# Altium footprint library IC_LQFP.PcbLib: 17 footprints (part 1 of 2)
Each footprint in its own frame and in the unit in brackets; x right, y up, seen from the top. Pads: shape width x height; smd on the part's side, far side on the other; paste and mask are expansions set on the pad; w line width, h text height; cw(c..) or ccw(c..) is an arc to the next point about the centre after c.
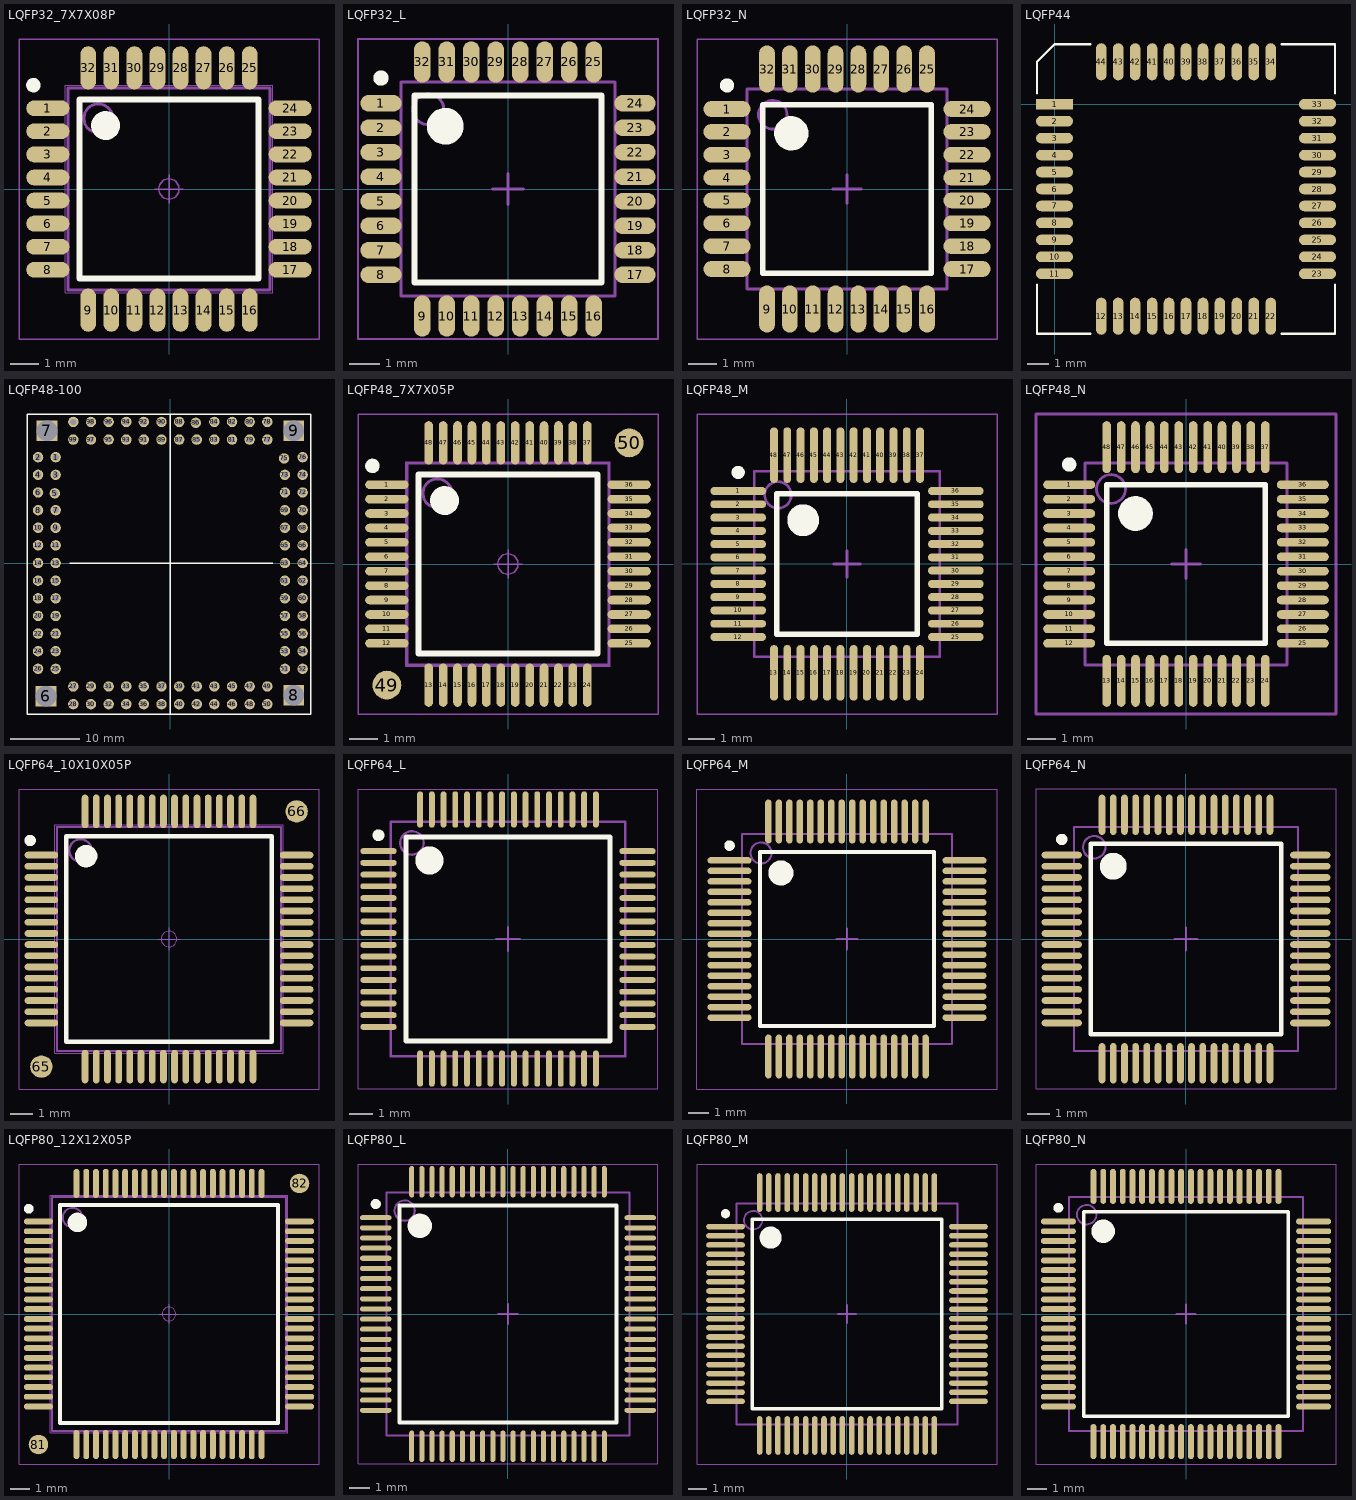
[diagram p0: the footprints below, top view; thin cyan lines are the x and y axes]

## LQFP32_7X7X08P [mm]
pads (32):
  oval 1.5x0.55 smd: 1(-4.2,2.8) 2(-4.2,2) 3(-4.2,1.2) 4(-4.2,0.4) 5(-4.2,-0.4) 6(-4.2,-1.2) 7(-4.2,-2) 8(-4.2,-2.8) 17(4.2,-2.8) 18(4.2,-2) 19(4.2,-1.2) 20(4.2,-0.4) 21(4.2,0.4) 22(4.2,1.2) 23(4.2,2) 24(4.2,2.8)
  oval 0.55x1.5 smd: 9(-2.8,-4.2) 10(-2,-4.2) 11(-1.2,-4.2) 12(-0.4,-4.2) 13(0.4,-4.2) 14(1.2,-4.2) 15(2,-4.2) 16(2.8,-4.2) 25(2.8,4.2) 26(2,4.2) 27(1.2,4.2) 28(0.4,4.2) 29(-0.4,4.2) 30(-1.2,4.2) 31(-2,4.2) 32(-2.8,4.2)
Top Overlay:
  circle w0.25: c-4.7,3.6 r0.125
  circle w0.5: c-2.2,2.2 r0.25
  lines w0.2: -3.1,-3.1 3.1,-3.1 3.1,3.1 -3.1,3.1 -3.1,-3.1
Mechanical 15:
  circle w0.1: c-2.45,2.45 r0.5
  lines w0.1: -3.5,-3.5 3.5,-3.5 3.5,3.5 -3.5,3.5 -3.5,-3.5
Mechanical 16:
  circle w0.05: c0,0 r0.35
  lines w0.001: -3.6,-3.6 3.6,-3.6 3.6,3.6 -3.6,3.6 -3.6,-3.6
  lines w0.05: -0.5,0 0.5,0 ; 0,-0.5 0,0.5 ; -5.2,-5.2 5.2,-5.2 5.2,5.2 -5.2,5.2 -5.2,-5.2
3D body "User Library-sot358-1.STEP": height 1.45, standoff -0.01, extent -4.521,-4.514 4.558,4.565

## LQFP32_L [mm] "Thin QFP, 32-Leads, Body 7x7mm, Pitch 0.8mm, IPC High Density"
height 1.6
pads (32):
  oval 1.35x0.55 smd: 1(-4.15,2.8) 2(-4.15,2) 3(-4.15,1.2) 4(-4.15,0.4) 5(-4.15,-0.4) 6(-4.15,-1.2) 7(-4.15,-2) 8(-4.15,-2.8) 17(4.15,-2.8) 18(4.15,-2) 19(4.15,-1.2) 20(4.15,-0.4) 21(4.15,0.4) 22(4.15,1.2) 23(4.15,2) 24(4.15,2.8)
  oval 0.55x1.35 smd: 9(-2.8,-4.15) 10(-2,-4.15) 11(-1.2,-4.15) 12(-0.4,-4.15) 13(0.4,-4.15) 14(1.2,-4.15) 15(2,-4.15) 16(2.8,-4.15) 25(2.8,4.15) 26(2,4.15) 27(1.2,4.15) 28(0.4,4.15) 29(-0.4,4.15) 30(-1.2,4.15) 31(-2,4.15) 32(-2.8,4.15)
Top Overlay:
  circle w0.6: c-2.05,2.05 r0.3
  circle w0.25: c-4.15,3.625 r0.125
  lines w0.2: -3.05,-3.05 3.05,-3.05 3.05,3.05 -3.05,3.05 -3.05,-3.05
Mechanical 13:
  circle w0.1: c-2.6,2.6 r0.5
  lines w0.1: -3.5,-3.5 3.5,-3.5 3.5,3.5 -3.5,3.5 -3.5,-3.5
Mechanical 15:
  lines w0.05: -4.9,-4.9 4.9,-4.9 4.9,4.9 -4.9,4.9 -4.9,-4.9
  lines w0.1: -0.5,0 0.5,0 ; 0,-0.5 0,0.5
3D body: height 1.6, standoff 0, extent -3.5,-3.5 3.5,3.5

## LQFP32_N [mm] "Thin QFP, 32-Leads, Body 7x7mm, Pitch 0.8mm, IPC Medium Density"
height 1.6
pads (32):
  oval 1.65x0.55 smd: 1(-4.2,2.8) 2(-4.2,2) 3(-4.2,1.2) 4(-4.2,0.4) 5(-4.2,-0.4) 6(-4.2,-1.2) 7(-4.2,-2) 8(-4.2,-2.8) 17(4.2,-2.8) 18(4.2,-2) 19(4.2,-1.2) 20(4.2,-0.4) 21(4.2,0.4) 22(4.2,1.2) 23(4.2,2) 24(4.2,2.8)
  oval 0.55x1.65 smd: 9(-2.8,-4.2) 10(-2,-4.2) 11(-1.2,-4.2) 12(-0.4,-4.2) 13(0.4,-4.2) 14(1.2,-4.2) 15(2,-4.2) 16(2.8,-4.2) 25(2.8,4.2) 26(2,4.2) 27(1.2,4.2) 28(0.4,4.2) 29(-0.4,4.2) 30(-1.2,4.2) 31(-2,4.2) 32(-2.8,4.2)
Top Overlay:
  circle w0.6: c-1.95,1.95 r0.3
  circle w0.25: c-4.2,3.625 r0.125
  lines w0.2: -2.95,-2.95 2.95,-2.95 2.95,2.95 -2.95,2.95 -2.95,-2.95
Mechanical 13:
  circle w0.1: c-2.6,2.6 r0.5
  lines w0.1: -3.5,-3.5 3.5,-3.5 3.5,3.5 -3.5,3.5 -3.5,-3.5
Mechanical 15:
  lines w0.05: -5.25,-5.25 5.25,-5.25 5.25,5.25 -5.25,5.25 -5.25,-5.25
  lines w0.1: -0.5,0 0.5,0 ; 0,-0.5 0,0.5
3D body: height 1.6, standoff 0, extent -3.5,-3.5 3.5,3.5

## LQFP44 [mm]
pads (44):
  rect 1.75x0.5 smd: 1(0,0)
  oval 1.75x0.5 smd: 2(0,-0.8) 3(0,-1.6) 4(0,-2.4) 5(0,-3.2) 6(0,-4) 7(0,-4.8) 8(0,-5.6) 9(0,-6.4) 10(0,-7.2) 11(0,-8) 23(12.4,-8) 24(12.4,-7.2) 25(12.4,-6.4) 26(12.4,-5.6) 27(12.4,-4.8) 28(12.4,-4) 29(12.4,-3.2) 30(12.4,-2.4) 31(12.4,-1.6) 32(12.4,-0.8) 33(12.4,0)
  oval 0.5x1.75 smd: 12(2.2,-10) 13(3,-10) 14(3.8,-10) 15(4.6,-10) 16(5.4,-10) 17(6.2,-10) 18(7,-10) 19(7.8,-10) 20(8.6,-10) 21(9.4,-10) 22(10.2,-10) 34(10.2,2) 35(9.4,2) 36(8.6,2) 37(7.8,2) 38(7,2) 39(6.2,2) 40(5.4,2) 41(4.6,2) 42(3.8,2) 43(3,2) 44(2.2,2)
Top Overlay:
  lines w0.1: -0.825,-8.5 -0.825,-10.825 1.7,-10.825 ; -0.825,0.5 -0.825,2 0,2.825 1.7,2.825 ; 10.7,-10.825 13.225,-10.825 13.225,-8.5 ; 10.7,2.825 13.225,2.825 13.225,0.5
3D body "User Library-LQFP 44.STEP": height 2.92, standoff -0.01, extent -0.203,-10.389 12.597,2.411

## LQFP48-100 [mm]
pads (104):
  round 1.5 hole 0.9: 1(-16.51,15.24) 2(-19.05,15.24) 3(-16.51,12.7) 4(-19.05,12.7) 5(-16.637,10.033) 6(-19.05,10.16) 7(-16.51,7.62) 8(-19.05,7.62) 9(-16.51,5.08) 10(-19.05,5.08) 11(-16.51,2.54) 12(-19.05,2.54) 13(-16.51,0) 14(-19.05,0) 15(-16.51,-2.54) 16(-19.05,-2.54) 17(-16.51,-5.08) 18(-19.05,-5.08) 19(-16.51,-7.62) 20(-19.05,-7.62) 21(-16.51,-10.16) 22(-19.05,-10.16) 23(-16.51,-12.7) 24(-19.05,-12.7) 25(-16.51,-15.24) 26(-19.05,-15.24) 27(-13.97,-17.78) 28(-13.97,-20.32) 29(-11.43,-17.78) 30(-11.43,-20.32) 31(-8.89,-17.78) 32(-8.89,-20.32) 33(-6.35,-17.78) 34(-6.35,-20.32) 35(-3.81,-17.78) 36(-3.81,-20.32) 37(-1.27,-17.78) 38(-1.27,-20.32) 39(1.27,-17.78) 40(1.27,-20.32) 41(3.81,-17.78) 42(3.81,-20.32) 43(6.35,-17.78) 44(6.35,-20.32) 45(8.89,-17.78) 46(8.89,-20.32) 47(11.43,-17.78) 48(11.43,-20.32) 49(13.97,-17.78) 50(13.97,-20.32) 51(16.51,-15.24) 52(19.05,-15.24) 53(16.51,-12.7) 54(19.05,-12.7) 55(16.51,-10.16) 56(19.05,-10.16) 57(16.51,-7.62) 58(19.05,-7.62) 59(16.51,-5.08) 60(19.05,-5.08) 61(16.51,-2.54) 62(19.05,-2.54) 63(16.51,0) 64(19.05,0) 65(16.51,2.54) 66(19.05,2.54) 67(16.51,5.08) 68(19.05,5.08) 69(16.51,7.62) 70(19.05,7.62) 71(16.51,10.16) 72(19.05,10.16) 73(16.51,12.7) 74(19.05,12.7) 75(16.383,15.059) 76(19.05,15.24) 77(13.97,17.78) 78(13.97,20.32) 79(11.43,17.78) 80(11.43,20.32) 81(8.89,17.78) 82(8.89,20.32) 83(6.35,17.78) 84(6.35,20.32) 85(3.81,17.78) 86(3.683,20.193) 87(1.27,17.78) 88(1.27,20.32) 89(-1.27,17.78) 90(-1.27,20.32) 91(-3.81,17.78) 92(-3.81,20.32) 93(-6.35,17.78) 94(-6.35,20.32) 95(-8.89,17.78) 96(-8.89,20.32) 97(-11.43,17.78) 98(-11.43,20.32) 99(-13.97,17.78) 100(-13.97,20.32)
  rect 3x3 hole 3: 6(-17.907,-19.177) 7(-17.78,19.05) 8(17.78,-19.05) 9(17.78,19.05)
Top Overlay:
  lines w0.2: -14.478,0 14.732,0 ; 0,-21.744 0,21.463 ; -20.574,-21.744 20.193,-21.744 20.193,21.463 -20.574,21.463 -20.574,-21.744

## LQFP48_7X7X05P [mm] "Thin QFP, 48-Leads, Body 7x7mm, Pitch 0.5mm, IPC Medium Density"
height 1.6
pads (50):
  oval 1.5x0.3 smd: 1(-4.2,2.75) 2(-4.2,2.25) 3(-4.2,1.75) 4(-4.2,1.25) 5(-4.2,0.75) 6(-4.2,0.25) 7(-4.2,-0.25) 8(-4.2,-0.75) 9(-4.2,-1.25) 10(-4.2,-1.75) 11(-4.2,-2.25) 12(-4.2,-2.75) 25(4.2,-2.75) 26(4.2,-2.25) 27(4.2,-1.75) 28(4.2,-1.25) 29(4.2,-0.75) 30(4.2,-0.25) 31(4.2,0.25) 32(4.2,0.75) 33(4.2,1.25) 34(4.2,1.75) 35(4.2,2.25) 36(4.2,2.75)
  oval 0.3x1.5 smd: 13(-2.75,-4.2) 14(-2.25,-4.2) 15(-1.75,-4.2) 16(-1.25,-4.2) 17(-0.75,-4.2) 18(-0.25,-4.2) 19(0.25,-4.2) 20(0.75,-4.2) 21(1.25,-4.2) 22(1.75,-4.2) 23(2.25,-4.2) 24(2.75,-4.2) 37(2.75,4.2) 38(2.25,4.2) 39(1.75,4.2) 40(1.25,4.2) 41(0.75,4.2) 42(0.25,4.2) 43(-0.25,4.2) 44(-0.75,4.2) 45(-1.25,4.2) 46(-1.75,4.2) 47(-2.25,4.2) 48(-2.75,4.2)
  round 1 smd: 49(-4.2,-4.2) 50(4.2,4.2)
Top Overlay:
  circle w0.5: c-2.2,2.2 r0.25
  circle w0.25: c-4.7,3.4 r0.125
  lines w0.2: -3.1,-3.1 -3.1,3.1 3.1,3.1 3.1,-3.1 -3.1,-3.1
Mechanical 15:
  circle w0.1: c-2.45,2.45 r0.5
  lines w0.1: -3.5,-3.5 -3.5,3.5 3.5,3.5 3.5,-3.5 -3.5,-3.5
Mechanical 16:
  circle w0.05: c0,0 r0.35
  lines w0.001: -3.55,-3.55 -3.55,3.55 3.55,3.55 3.55,-3.55 -3.55,-3.55
  lines w0.05: -0.5,0 0.5,0 ; 0,-0.5 0,0.5 ; -5.2,-5.2 -5.2,5.2 5.2,5.2 5.2,-5.2 -5.2,-5.2
3D body "SW3dPS-Quad50M48.STEP": height 1.56, standoff 0, extent -4.5,-4.496 4.5,4.504

## LQFP48_M [mm] "Thin QFP, 48-Leads, Body 7x7mm, Pitch 0.5mm, IPC Low Density"
height 1.6
pads (48):
  oval 2.1x0.3 smd: 1(-4.1,2.75) 2(-4.1,2.25) 3(-4.1,1.75) 4(-4.1,1.25) 5(-4.1,0.75) 6(-4.1,0.25) 7(-4.1,-0.25) 8(-4.1,-0.75) 9(-4.1,-1.25) 10(-4.1,-1.75) 11(-4.1,-2.25) 12(-4.1,-2.75) 25(4.1,-2.75) 26(4.1,-2.25) 27(4.1,-1.75) 28(4.1,-1.25) 29(4.1,-0.75) 30(4.1,-0.25) 31(4.1,0.25) 32(4.1,0.75) 33(4.1,1.25) 34(4.1,1.75) 35(4.1,2.25) 36(4.1,2.75)
  oval 0.3x2.1 smd: 13(-2.75,-4.1) 14(-2.25,-4.1) 15(-1.75,-4.1) 16(-1.25,-4.1) 17(-0.75,-4.1) 18(-0.25,-4.1) 19(0.25,-4.1) 20(0.75,-4.1) 21(1.25,-4.1) 22(1.75,-4.1) 23(2.25,-4.1) 24(2.75,-4.1) 37(2.75,4.1) 38(2.25,4.1) 39(1.75,4.1) 40(1.25,4.1) 41(0.75,4.1) 42(0.25,4.1) 43(-0.25,4.1) 44(-0.75,4.1) 45(-1.25,4.1) 46(-1.75,4.1) 47(-2.25,4.1) 48(-2.75,4.1)
Top Overlay:
  circle w0.6: c-1.65,1.65 r0.3
  circle w0.25: c-4.1,3.45 r0.125
  lines w0.2: -2.65,-2.65 2.65,-2.65 2.65,2.65 -2.65,2.65 -2.65,-2.65
Mechanical 13:
  circle w0.1: c-2.6,2.6 r0.5
  lines w0.1: -3.5,-3.5 3.5,-3.5 3.5,3.5 -3.5,3.5 -3.5,-3.5
Mechanical 15:
  lines w0.05: -5.65,-5.65 5.65,-5.65 5.65,5.65 -5.65,5.65 -5.65,-5.65
  lines w0.1: -0.5,0 0.5,0 ; 0,-0.5 0,0.5
3D body: height 1.6, standoff 0, extent -3.5,-3.5 3.5,3.5

## LQFP48_N [mm] "Thin QFP, 48-Leads, Body 7x7mm, Pitch 0.5mm, IPC Medium Density"
height 1.6
pads (48):
  oval 1.8x0.3 smd: 1(-4.05,2.75) 2(-4.05,2.25) 3(-4.05,1.75) 4(-4.05,1.25) 5(-4.05,0.75) 6(-4.05,0.25) 7(-4.05,-0.25) 8(-4.05,-0.75) 9(-4.05,-1.25) 10(-4.05,-1.75) 11(-4.05,-2.25) 12(-4.05,-2.75) 25(4.05,-2.75) 26(4.05,-2.25) 27(4.05,-1.75) 28(4.05,-1.25) 29(4.05,-0.75) 30(4.05,-0.25) 31(4.05,0.25) 32(4.05,0.75) 33(4.05,1.25) 34(4.05,1.75) 35(4.05,2.25) 36(4.05,2.75)
  oval 0.3x1.8 smd: 13(-2.75,-4.05) 14(-2.25,-4.05) 15(-1.75,-4.05) 16(-1.25,-4.05) 17(-0.75,-4.05) 18(-0.25,-4.05) 19(0.25,-4.05) 20(0.75,-4.05) 21(1.25,-4.05) 22(1.75,-4.05) 23(2.25,-4.05) 24(2.75,-4.05) 37(2.75,4.05) 38(2.25,4.05) 39(1.75,4.05) 40(1.25,4.05) 41(0.75,4.05) 42(0.25,4.05) 43(-0.25,4.05) 44(-0.75,4.05) 45(-1.25,4.05) 46(-1.75,4.05) 47(-2.25,4.05) 48(-2.75,4.05)
Top Overlay:
  circle w0.6: c-1.75,1.75 r0.3
  circle w0.25: c-4.05,3.45 r0.125
  lines w0.2: -2.75,-2.75 2.75,-2.75 2.75,2.75 -2.75,2.75 -2.75,-2.75
Mechanical 13:
  circle w0.1: c-2.6,2.6 r0.5
  lines w0.1: -3.5,-3.5 3.5,-3.5 3.5,3.5 -3.5,3.5 -3.5,-3.5
Mechanical 15:
  lines w0.1: -0.5,0 0.5,0 ; 0,-0.5 0,0.5 ; -5.2,-5.2 5.2,-5.2 5.2,5.2 -5.2,5.2 -5.2,-5.2
3D body: height 1.6, standoff 0, extent -3.5,-3.5 3.5,3.5

## LQFP64_10X10X05P [mm]
pads (66):
  oval 1.5x0.3 smd: 1(-5.7,3.75) 2(-5.7,3.25) 3(-5.7,2.75) 4(-5.7,2.25) 5(-5.7,1.75) 6(-5.7,1.25) 7(-5.7,0.75) 8(-5.7,0.25) 9(-5.7,-0.25) 10(-5.7,-0.75) 11(-5.7,-1.25) 12(-5.7,-1.75) 13(-5.7,-2.25) 14(-5.7,-2.75) 15(-5.7,-3.25) 16(-5.7,-3.75) 33(5.7,-3.75) 34(5.7,-3.25) 35(5.7,-2.75) 36(5.7,-2.25) 37(5.7,-1.75) 38(5.7,-1.25) 39(5.7,-0.75) 40(5.7,-0.25) 41(5.7,0.25) 42(5.7,0.75) 43(5.7,1.25) 44(5.7,1.75) 45(5.7,2.25) 46(5.7,2.75) 47(5.7,3.25) 48(5.7,3.75)
  oval 0.3x1.5 smd: 17(-3.75,-5.7) 18(-3.25,-5.7) 19(-2.75,-5.7) 20(-2.25,-5.7) 21(-1.75,-5.7) 22(-1.25,-5.7) 23(-0.75,-5.7) 24(-0.25,-5.7) 25(0.25,-5.7) 26(0.75,-5.7) 27(1.25,-5.7) 28(1.75,-5.7) 29(2.25,-5.7) 30(2.75,-5.7) 31(3.25,-5.7) 32(3.75,-5.7) 49(3.75,5.7) 50(3.25,5.7) 51(2.75,5.7) 52(2.25,5.7) 53(1.75,5.7) 54(1.25,5.7) 55(0.75,5.7) 56(0.25,5.7) 57(-0.25,5.7) 58(-0.75,5.7) 59(-1.25,5.7) 60(-1.75,5.7) 61(-2.25,5.7) 62(-2.75,5.7) 63(-3.25,5.7) 64(-3.75,5.7)
  round 1 smd: 65(-5.7,-5.7) 66(5.7,5.7)
Top Overlay:
  circle w0.25: c-6.2,4.4 r0.125
  circle w0.5: c-3.7,3.7 r0.25
  lines w0.2: -4.6,-4.6 4.6,-4.6 4.6,4.6 -4.6,4.6 -4.6,-4.6
Mechanical 15:
  circle w0.1: c-3.95,3.95 r0.5
  lines w0.1: -5,-5 5,-5 5,5 -5,5 -5,-5
Mechanical 16:
  circle w0.05: c0,0 r0.35
  lines w0.001: -5.1,-5.1 5.1,-5.1 5.1,5.1 -5.1,5.1 -5.1,-5.1
  lines w0.05: -0.5,0 0.5,0 ; 0,-0.5 0,0.5 ; -6.7,-6.7 6.7,-6.7 6.7,6.7 -6.7,6.7 -6.7,-6.7
3D body "User Library-LQFP-64.STEP": height 1.7, standoff -0.01, extent -5.994,-6.006 6.006,5.994

## LQFP64_L [mm] "Thin QFP, 64-Leads, Body 10x10mm, Pitch 0.5mm, IPC High Density"
height 1.6
pads (64):
  oval 1.55x0.25 smd: 1(-5.525,3.75) 2(-5.525,3.25) 3(-5.525,2.75) 4(-5.525,2.25) 5(-5.525,1.75) 6(-5.525,1.25) 7(-5.525,0.75) 8(-5.525,0.25) 9(-5.525,-0.25) 10(-5.525,-0.75) 11(-5.525,-1.25) 12(-5.525,-1.75) 13(-5.525,-2.25) 14(-5.525,-2.75) 15(-5.525,-3.25) 16(-5.525,-3.75) 33(5.525,-3.75) 34(5.525,-3.25) 35(5.525,-2.75) 36(5.525,-2.25) 37(5.525,-1.75) 38(5.525,-1.25) 39(5.525,-0.75) 40(5.525,-0.25) 41(5.525,0.25) 42(5.525,0.75) 43(5.525,1.25) 44(5.525,1.75) 45(5.525,2.25) 46(5.525,2.75) 47(5.525,3.25) 48(5.525,3.75)
  oval 0.25x1.55 smd: 17(-3.75,-5.525) 18(-3.25,-5.525) 19(-2.75,-5.525) 20(-2.25,-5.525) 21(-1.75,-5.525) 22(-1.25,-5.525) 23(-0.75,-5.525) 24(-0.25,-5.525) 25(0.25,-5.525) 26(0.75,-5.525) 27(1.25,-5.525) 28(1.75,-5.525) 29(2.25,-5.525) 30(2.75,-5.525) 31(3.25,-5.525) 32(3.75,-5.525) 49(3.75,5.525) 50(3.25,5.525) 51(2.75,5.525) 52(2.25,5.525) 53(1.75,5.525) 54(1.25,5.525) 55(0.75,5.525) 56(0.25,5.525) 57(-0.25,5.525) 58(-0.75,5.525) 59(-1.25,5.525) 60(-1.75,5.525) 61(-2.25,5.525) 62(-2.75,5.525) 63(-3.25,5.525) 64(-3.75,5.525)
Top Overlay:
  circle w0.6: c-3.35,3.35 r0.3
  circle w0.25: c-5.525,4.425 r0.125
  lines w0.2: -4.35,-4.35 4.35,-4.35 4.35,4.35 -4.35,4.35 -4.35,-4.35
Mechanical 13:
  circle w0.1: c-4.1,4.1 r0.5
  lines w0.1: -5,-5 5,-5 5,5 -5,5 -5,-5
Mechanical 15:
  lines w0.05: -6.4,-6.4 6.4,-6.4 6.4,6.4 -6.4,6.4 -6.4,-6.4
  lines w0.1: -0.5,0 0.5,0 ; 0,-0.5 0,0.5
3D body: height 1.6, standoff 0, extent -5,-5 5,5

## LQFP64_M [mm] "Thin QFP, 64-Leads, Body 10x10mm, Pitch 0.5mm, IPC Low Density"
height 1.6
pads (64):
  oval 2.1x0.3 smd: 1(-5.6,3.75) 2(-5.6,3.25) 3(-5.6,2.75) 4(-5.6,2.25) 5(-5.6,1.75) 6(-5.6,1.25) 7(-5.6,0.75) 8(-5.6,0.25) 9(-5.6,-0.25) 10(-5.6,-0.75) 11(-5.6,-1.25) 12(-5.6,-1.75) 13(-5.6,-2.25) 14(-5.6,-2.75) 15(-5.6,-3.25) 16(-5.6,-3.75) 33(5.6,-3.75) 34(5.6,-3.25) 35(5.6,-2.75) 36(5.6,-2.25) 37(5.6,-1.75) 38(5.6,-1.25) 39(5.6,-0.75) 40(5.6,-0.25) 41(5.6,0.25) 42(5.6,0.75) 43(5.6,1.25) 44(5.6,1.75) 45(5.6,2.25) 46(5.6,2.75) 47(5.6,3.25) 48(5.6,3.75)
  oval 0.3x2.1 smd: 17(-3.75,-5.6) 18(-3.25,-5.6) 19(-2.75,-5.6) 20(-2.25,-5.6) 21(-1.75,-5.6) 22(-1.25,-5.6) 23(-0.75,-5.6) 24(-0.25,-5.6) 25(0.25,-5.6) 26(0.75,-5.6) 27(1.25,-5.6) 28(1.75,-5.6) 29(2.25,-5.6) 30(2.75,-5.6) 31(3.25,-5.6) 32(3.75,-5.6) 49(3.75,5.6) 50(3.25,5.6) 51(2.75,5.6) 52(2.25,5.6) 53(1.75,5.6) 54(1.25,5.6) 55(0.75,5.6) 56(0.25,5.6) 57(-0.25,5.6) 58(-0.75,5.6) 59(-1.25,5.6) 60(-1.75,5.6) 61(-2.25,5.6) 62(-2.75,5.6) 63(-3.25,5.6) 64(-3.75,5.6)
Top Overlay:
  circle w0.25: c-5.6,4.45 r0.125
  circle w0.6: c-3.15,3.15 r0.3
  lines w0.2: -4.15,-4.15 -4.15,4.15 4.15,4.15 4.15,-4.15 -4.15,-4.15
Mechanical 13:
  circle w0.1: c-4.1,4.1 r0.5
  lines w0.1: -5,-5 -5,5 5,5 5,-5 -5,-5
Mechanical 15:
  lines w0.05: -7.15,-7.15 -7.15,7.15 7.15,7.15 7.15,-7.15 -7.15,-7.15
  lines w0.1: -0.5,0 0.5,0 ; 0,-0.5 0,0.5
3D body: height 1.6, standoff 0, extent -5,-5 5,5

## LQFP64_N [mm] "Thin QFP, 64-Leads, Body 10x10mm, Pitch 0.5mm, IPC Medium Density"
height 1.6
pads (64):
  oval 1.8x0.3 smd: 1(-5.55,3.75) 2(-5.55,3.25) 3(-5.55,2.75) 4(-5.55,2.25) 5(-5.55,1.75) 6(-5.55,1.25) 7(-5.55,0.75) 8(-5.55,0.25) 9(-5.55,-0.25) 10(-5.55,-0.75) 11(-5.55,-1.25) 12(-5.55,-1.75) 13(-5.55,-2.25) 14(-5.55,-2.75) 15(-5.55,-3.25) 16(-5.55,-3.75) 33(5.55,-3.75) 34(5.55,-3.25) 35(5.55,-2.75) 36(5.55,-2.25) 37(5.55,-1.75) 38(5.55,-1.25) 39(5.55,-0.75) 40(5.55,-0.25) 41(5.55,0.25) 42(5.55,0.75) 43(5.55,1.25) 44(5.55,1.75) 45(5.55,2.25) 46(5.55,2.75) 47(5.55,3.25) 48(5.55,3.75)
  oval 0.3x1.8 smd: 17(-3.75,-5.55) 18(-3.25,-5.55) 19(-2.75,-5.55) 20(-2.25,-5.55) 21(-1.75,-5.55) 22(-1.25,-5.55) 23(-0.75,-5.55) 24(-0.25,-5.55) 25(0.25,-5.55) 26(0.75,-5.55) 27(1.25,-5.55) 28(1.75,-5.55) 29(2.25,-5.55) 30(2.75,-5.55) 31(3.25,-5.55) 32(3.75,-5.55) 49(3.75,5.55) 50(3.25,5.55) 51(2.75,5.55) 52(2.25,5.55) 53(1.75,5.55) 54(1.25,5.55) 55(0.75,5.55) 56(0.25,5.55) 57(-0.25,5.55) 58(-0.75,5.55) 59(-1.25,5.55) 60(-1.75,5.55) 61(-2.25,5.55) 62(-2.75,5.55) 63(-3.25,5.55) 64(-3.75,5.55)
Top Overlay:
  circle w0.25: c-5.55,4.45 r0.125
  circle w0.6: c-3.25,3.25 r0.3
  lines w0.2: -4.25,-4.25 -4.25,4.25 4.25,4.25 4.25,-4.25 -4.25,-4.25
Mechanical 13:
  circle w0.1: c-4.1,4.1 r0.5
  lines w0.1: -5,-5 -5,5 5,5 5,-5 -5,-5
Mechanical 15:
  lines w0.05: -6.7,-6.7 -6.7,6.7 6.7,6.7 6.7,-6.7 -6.7,-6.7
  lines w0.1: -0.5,0 0.5,0 ; 0,-0.5 0,0.5
3D body: height 1.6, standoff 0, extent -5,-5 5,5

## LQFP80_12X12X05P [mm]
pads (82):
  oval 1.5x0.3 smd: 1(-6.7,4.75) 2(-6.7,4.25) 3(-6.7,3.75) 4(-6.7,3.25) 5(-6.7,2.75) 6(-6.7,2.25) 7(-6.7,1.75) 8(-6.7,1.25) 9(-6.7,0.75) 10(-6.7,0.25) 11(-6.7,-0.25) 12(-6.7,-0.75) 13(-6.7,-1.25) 14(-6.7,-1.75) 15(-6.7,-2.25) 16(-6.7,-2.75) 17(-6.7,-3.25) 18(-6.7,-3.75) 19(-6.7,-4.25) 20(-6.7,-4.75) 41(6.7,-4.75) 42(6.7,-4.25) 43(6.7,-3.75) 44(6.7,-3.25) 45(6.7,-2.75) 46(6.7,-2.25) 47(6.7,-1.75) 48(6.7,-1.25) 49(6.7,-0.75) 50(6.7,-0.25) 51(6.7,0.25) 52(6.7,0.75) 53(6.7,1.25) 54(6.7,1.75) 55(6.7,2.25) 56(6.7,2.75) 57(6.7,3.25) 58(6.7,3.75) 59(6.7,4.25) 60(6.7,4.75)
  oval 0.3x1.5 smd: 21(-4.75,-6.7) 22(-4.25,-6.7) 23(-3.75,-6.7) 24(-3.25,-6.7) 25(-2.75,-6.7) 26(-2.25,-6.7) 27(-1.75,-6.7) 28(-1.25,-6.7) 29(-0.75,-6.7) 30(-0.25,-6.7) 31(0.25,-6.7) 32(0.75,-6.7) 33(1.25,-6.7) 34(1.75,-6.7) 35(2.25,-6.7) 36(2.75,-6.7) 37(3.25,-6.7) 38(3.75,-6.7) 39(4.25,-6.7) 40(4.75,-6.7) 61(4.75,6.7) 62(4.25,6.7) 63(3.75,6.7) 64(3.25,6.7) 65(2.75,6.7) 66(2.25,6.7) 67(1.75,6.7) 68(1.25,6.7) 69(0.75,6.7) 70(0.25,6.7) 71(-0.25,6.7) 72(-0.75,6.7) 73(-1.25,6.7) 74(-1.75,6.7) 75(-2.25,6.7) 76(-2.75,6.7) 77(-3.25,6.7) 78(-3.75,6.7) 79(-4.25,6.7) 80(-4.75,6.7)
  round 1 smd: 81(-6.7,-6.7) 82(6.7,6.7)
Top Overlay:
  circle w0.5: c-4.7,4.7 r0.25
  circle w0.25: c-7.2,5.4 r0.125
  lines w0.2: -5.6,-5.6 -5.6,5.6 5.6,5.6 5.6,-5.6 -5.6,-5.6
Mechanical 15:
  circle w0.1: c-4.95,4.95 r0.5
  lines w0.1: -6,-6 -6,6 6,6 6,-6 -6,-6
Mechanical 16:
  circle w0.05: c0,0 r0.35
  lines w0.001: -6.1,-6.1 -6.1,6.1 6.1,6.1 6.1,-6.1 -6.1,-6.1
  lines w0.05: -0.5,0 0.5,0 ; 0,-0.5 0,0.5 ; -7.7,-7.7 -7.7,7.7 7.7,7.7 7.7,-7.7 -7.7,-7.7
3D body "SW3dPS-LQFP-80.STEP": height 1.65, standoff 0.01, extent -7.112,-7.112 7.088,7.088

## LQFP80_L [mm] "Thin QFP, 80-Leads, Body 12x12mm, Pitch 0.5mm, IPC High Density"
height 1.6
pads (80):
  oval 1.55x0.25 smd: 1(-6.525,4.75) 2(-6.525,4.25) 3(-6.525,3.75) 4(-6.525,3.25) 5(-6.525,2.75) 6(-6.525,2.25) 7(-6.525,1.75) 8(-6.525,1.25) 9(-6.525,0.75) 10(-6.525,0.25) 11(-6.525,-0.25) 12(-6.525,-0.75) 13(-6.525,-1.25) 14(-6.525,-1.75) 15(-6.525,-2.25) 16(-6.525,-2.75) 17(-6.525,-3.25) 18(-6.525,-3.75) 19(-6.525,-4.25) 20(-6.525,-4.75) 41(6.525,-4.75) 42(6.525,-4.25) 43(6.525,-3.75) 44(6.525,-3.25) 45(6.525,-2.75) 46(6.525,-2.25) 47(6.525,-1.75) 48(6.525,-1.25) 49(6.525,-0.75) 50(6.525,-0.25) 51(6.525,0.25) 52(6.525,0.75) 53(6.525,1.25) 54(6.525,1.75) 55(6.525,2.25) 56(6.525,2.75) 57(6.525,3.25) 58(6.525,3.75) 59(6.525,4.25) 60(6.525,4.75)
  oval 0.25x1.55 smd: 21(-4.75,-6.525) 22(-4.25,-6.525) 23(-3.75,-6.525) 24(-3.25,-6.525) 25(-2.75,-6.525) 26(-2.25,-6.525) 27(-1.75,-6.525) 28(-1.25,-6.525) 29(-0.75,-6.525) 30(-0.25,-6.525) 31(0.25,-6.525) 32(0.75,-6.525) 33(1.25,-6.525) 34(1.75,-6.525) 35(2.25,-6.525) 36(2.75,-6.525) 37(3.25,-6.525) 38(3.75,-6.525) 39(4.25,-6.525) 40(4.75,-6.525) 61(4.75,6.525) 62(4.25,6.525) 63(3.75,6.525) 64(3.25,6.525) 65(2.75,6.525) 66(2.25,6.525) 67(1.75,6.525) 68(1.25,6.525) 69(0.75,6.525) 70(0.25,6.525) 71(-0.25,6.525) 72(-0.75,6.525) 73(-1.25,6.525) 74(-1.75,6.525) 75(-2.25,6.525) 76(-2.75,6.525) 77(-3.25,6.525) 78(-3.75,6.525) 79(-4.25,6.525) 80(-4.75,6.525)
Top Overlay:
  circle w0.25: c-6.525,5.425 r0.125
  circle w0.6: c-4.35,4.35 r0.3
  lines w0.2: -5.35,-5.35 -5.35,5.35 5.35,5.35 5.35,-5.35 -5.35,-5.35
Mechanical 13:
  circle w0.1: c-5.1,5.1 r0.5
  lines w0.1: -6,-6 -6,6 6,6 6,-6 -6,-6
Mechanical 15:
  lines w0.05: -7.4,-7.4 -7.4,7.4 7.4,7.4 7.4,-7.4 -7.4,-7.4
  lines w0.1: -0.5,0 0.5,0 ; 0,-0.5 0,0.5
3D body: height 1.6, standoff 0, extent -6,-6 6,6

## LQFP80_M [mm] "Thin QFP, 80-Leads, Body 12x12mm, Pitch 0.5mm, IPC Low Density"
height 1.6
pads (80):
  oval 2.1x0.3 smd: 1(-6.6,4.75) 2(-6.6,4.25) 3(-6.6,3.75) 4(-6.6,3.25) 5(-6.6,2.75) 6(-6.6,2.25) 7(-6.6,1.75) 8(-6.6,1.25) 9(-6.6,0.75) 10(-6.6,0.25) 11(-6.6,-0.25) 12(-6.6,-0.75) 13(-6.6,-1.25) 14(-6.6,-1.75) 15(-6.6,-2.25) 16(-6.6,-2.75) 17(-6.6,-3.25) 18(-6.6,-3.75) 19(-6.6,-4.25) 20(-6.6,-4.75) 41(6.6,-4.75) 42(6.6,-4.25) 43(6.6,-3.75) 44(6.6,-3.25) 45(6.6,-2.75) 46(6.6,-2.25) 47(6.6,-1.75) 48(6.6,-1.25) 49(6.6,-0.75) 50(6.6,-0.25) 51(6.6,0.25) 52(6.6,0.75) 53(6.6,1.25) 54(6.6,1.75) 55(6.6,2.25) 56(6.6,2.75) 57(6.6,3.25) 58(6.6,3.75) 59(6.6,4.25) 60(6.6,4.75)
  oval 0.3x2.1 smd: 21(-4.75,-6.6) 22(-4.25,-6.6) 23(-3.75,-6.6) 24(-3.25,-6.6) 25(-2.75,-6.6) 26(-2.25,-6.6) 27(-1.75,-6.6) 28(-1.25,-6.6) 29(-0.75,-6.6) 30(-0.25,-6.6) 31(0.25,-6.6) 32(0.75,-6.6) 33(1.25,-6.6) 34(1.75,-6.6) 35(2.25,-6.6) 36(2.75,-6.6) 37(3.25,-6.6) 38(3.75,-6.6) 39(4.25,-6.6) 40(4.75,-6.6) 61(4.75,6.6) 62(4.25,6.6) 63(3.75,6.6) 64(3.25,6.6) 65(2.75,6.6) 66(2.25,6.6) 67(1.75,6.6) 68(1.25,6.6) 69(0.75,6.6) 70(0.25,6.6) 71(-0.25,6.6) 72(-0.75,6.6) 73(-1.25,6.6) 74(-1.75,6.6) 75(-2.25,6.6) 76(-2.75,6.6) 77(-3.25,6.6) 78(-3.75,6.6) 79(-4.25,6.6) 80(-4.75,6.6)
Top Overlay:
  circle w0.25: c-6.6,5.45 r0.125
  circle w0.6: c-4.15,4.15 r0.3
  lines w0.2: -5.15,-5.15 -5.15,5.15 5.15,5.15 5.15,-5.15 -5.15,-5.15
Mechanical 13:
  circle w0.1: c-5.1,5.1 r0.5
  lines w0.1: -6,-6 -6,6 6,6 6,-6 -6,-6
Mechanical 15:
  lines w0.05: -8.15,-8.15 -8.15,8.15 8.15,8.15 8.15,-8.15 -8.15,-8.15
  lines w0.1: -0.5,0 0.5,0 ; 0,-0.5 0,0.5
3D body: height 1.6, standoff 0, extent -6,-6 6,6

## LQFP80_N [mm] "Thin QFP, 80-Leads, Body 12x12mm, Pitch 0.5mm, IPC Medium Density"
height 1.6
pads (80):
  oval 1.8x0.3 smd: 1(-6.55,4.75) 2(-6.55,4.25) 3(-6.55,3.75) 4(-6.55,3.25) 5(-6.55,2.75) 6(-6.55,2.25) 7(-6.55,1.75) 8(-6.55,1.25) 9(-6.55,0.75) 10(-6.55,0.25) 11(-6.55,-0.25) 12(-6.55,-0.75) 13(-6.55,-1.25) 14(-6.55,-1.75) 15(-6.55,-2.25) 16(-6.55,-2.75) 17(-6.55,-3.25) 18(-6.55,-3.75) 19(-6.55,-4.25) 20(-6.55,-4.75) 41(6.55,-4.75) 42(6.55,-4.25) 43(6.55,-3.75) 44(6.55,-3.25) 45(6.55,-2.75) 46(6.55,-2.25) 47(6.55,-1.75) 48(6.55,-1.25) 49(6.55,-0.75) 50(6.55,-0.25) 51(6.55,0.25) 52(6.55,0.75) 53(6.55,1.25) 54(6.55,1.75) 55(6.55,2.25) 56(6.55,2.75) 57(6.55,3.25) 58(6.55,3.75) 59(6.55,4.25) 60(6.55,4.75)
  oval 0.3x1.8 smd: 21(-4.75,-6.55) 22(-4.25,-6.55) 23(-3.75,-6.55) 24(-3.25,-6.55) 25(-2.75,-6.55) 26(-2.25,-6.55) 27(-1.75,-6.55) 28(-1.25,-6.55) 29(-0.75,-6.55) 30(-0.25,-6.55) 31(0.25,-6.55) 32(0.75,-6.55) 33(1.25,-6.55) 34(1.75,-6.55) 35(2.25,-6.55) 36(2.75,-6.55) 37(3.25,-6.55) 38(3.75,-6.55) 39(4.25,-6.55) 40(4.75,-6.55) 61(4.75,6.55) 62(4.25,6.55) 63(3.75,6.55) 64(3.25,6.55) 65(2.75,6.55) 66(2.25,6.55) 67(1.75,6.55) 68(1.25,6.55) 69(0.75,6.55) 70(0.25,6.55) 71(-0.25,6.55) 72(-0.75,6.55) 73(-1.25,6.55) 74(-1.75,6.55) 75(-2.25,6.55) 76(-2.75,6.55) 77(-3.25,6.55) 78(-3.75,6.55) 79(-4.25,6.55) 80(-4.75,6.55)
Top Overlay:
  circle w0.25: c-6.55,5.45 r0.125
  circle w0.6: c-4.25,4.25 r0.3
  lines w0.2: -5.25,-5.25 -5.25,5.25 5.25,5.25 5.25,-5.25 -5.25,-5.25
Mechanical 13:
  circle w0.1: c-5.1,5.1 r0.5
  lines w0.1: -6,-6 -6,6 6,6 6,-6 -6,-6
Mechanical 15:
  lines w0.05: -7.7,-7.7 -7.7,7.7 7.7,7.7 7.7,-7.7 -7.7,-7.7
  lines w0.1: -0.5,0 0.5,0 ; 0,-0.5 0,0.5
3D body: height 1.6, standoff 0, extent -6,-6 6,6